# Altium footprint library MAGNETICS.PcbLib: 20 footprints (part 1 of 2)
Each footprint in its own frame and in the unit in brackets; x right, y up, seen from the top. Pads: shape width x height; smd on the part's side, far side on the other; paste and mask are expansions set on the pad; w line width, h text height; cw(c..) or ccw(c..) is an arc to the next point about the centre after c.
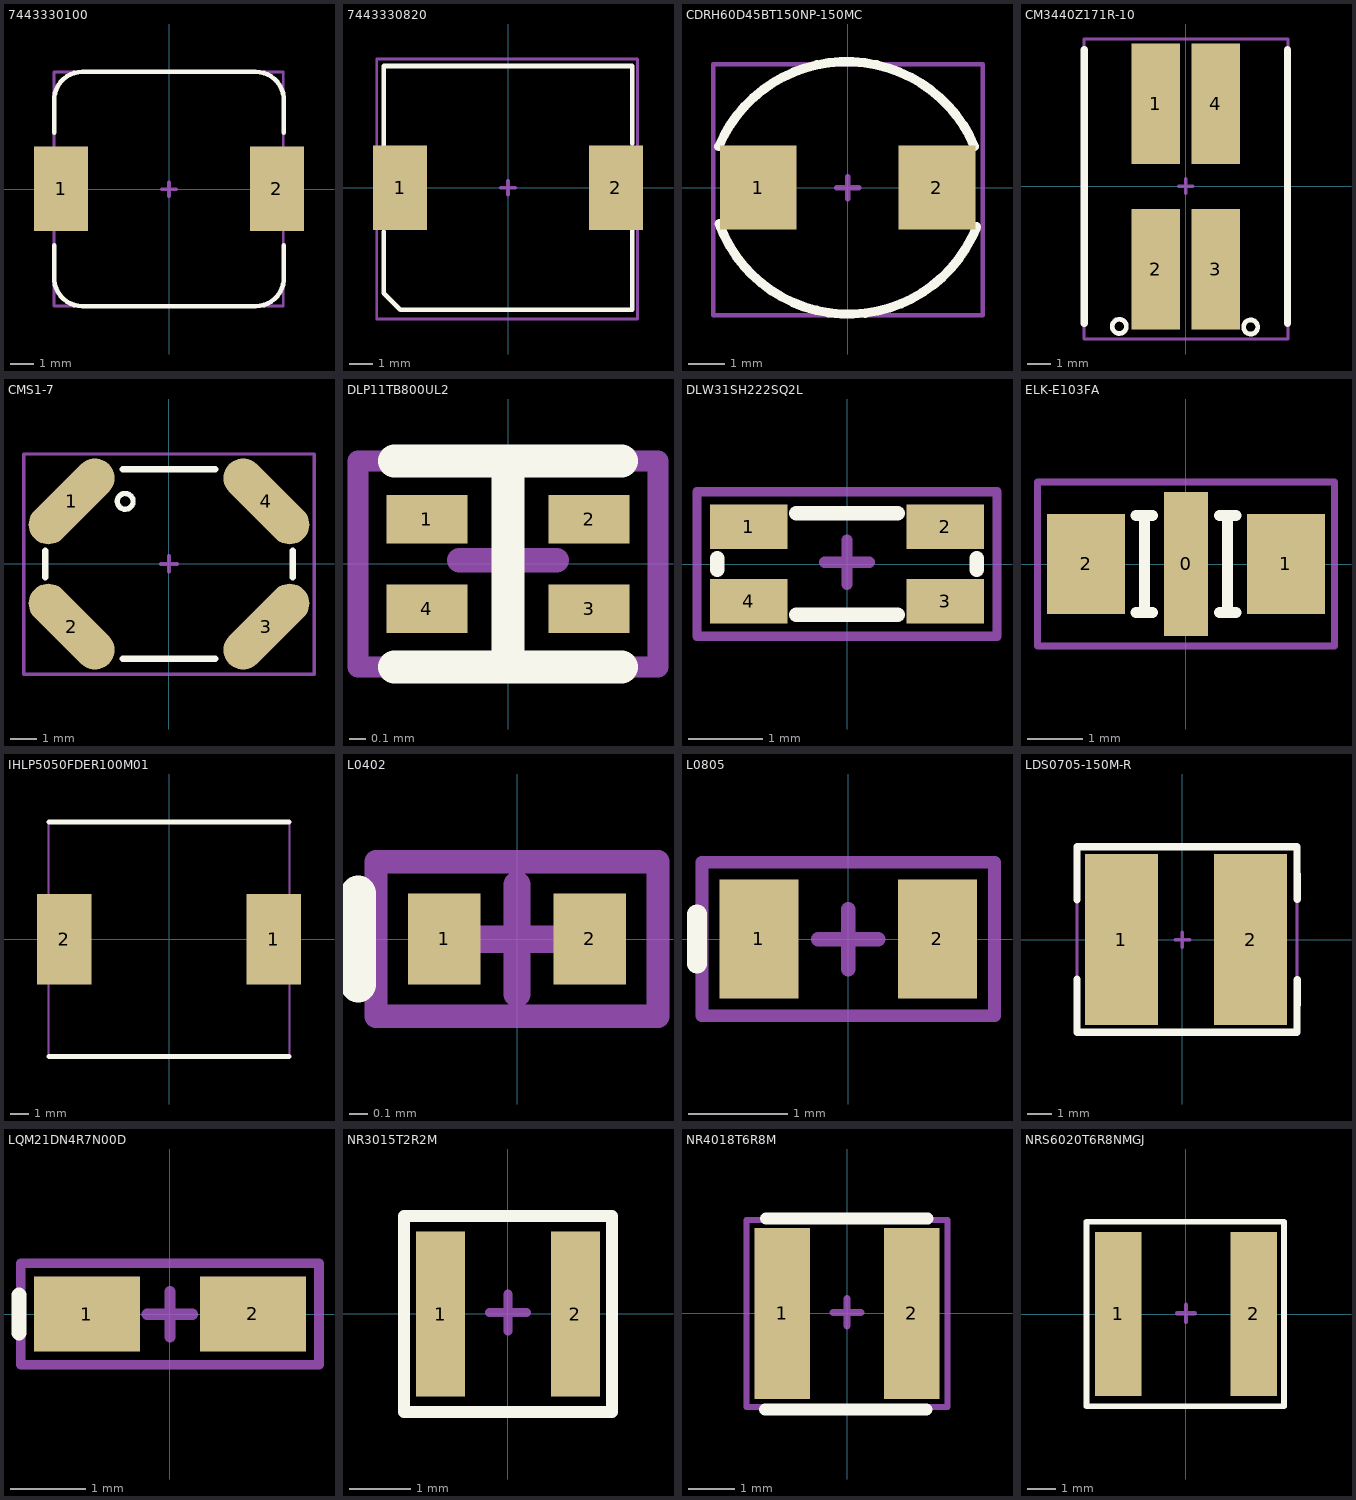
[diagram p0: the footprints below, top view; thin cyan lines are the x and y axes]

## 7443330100 [mm] "INDUCTOR POWER (10.90mm x 10.00mm x 9.30mm)"
height 9.3
pads (2):
  rect 2.3x3.6 smd: 1(-4.6,0.003) 2(4.6,0.003)
Top Overlay:
  lines w0.2: -4.896,-2.396 -4.896,-3.896 ccw(c-3.7,-3.8) -3.7,-5 3.7,-5 ccw(c3.7,-3.8) 4.896,-3.9 4.896,-2.4 ; -4.896,2.4 -4.896,3.9 cw(c-3.7,3.8) -3.7,5 3.7,5 cw(c3.7,3.8) 4.896,3.9 4.896,2.4
Top Assembly:
  lines w0.127: -4.9,-5 -4.9,5 4.875,5 4.875,-5 -4.9,-5
  text ".Designator" at -2,-0.275 h0.7
Top Component Center:
  lines w0.15: -0.3,-0.002 0.3,-0.002 ; 0,-0.302 0,0.298
3D body "7443330XXX.stp": height 9.3, standoff 0, extent -5.075,-5.05 5.175,4.95
3D body: height 3, standoff 0, extent -5.125,-1.5 -3.525,1.5
3D body: height 3, standoff 0, extent 3.575,-1.5 5.175,1.5

## 7443330820 [mm]
pads (2):
  rect 2.3x3.6 smd: 1(-4.6,0) 2(4.6,0)
Top Overlay:
  lines w0.2: -5.3,-1.875 -5.3,-4.5 -4.6,-5.2 5.3,-5.2 5.3,-1.825 ; -5.3,1.825 -5.3,5.2 5.3,5.2 5.3,1.875
Top Assembly:
  lines w0.127: -5.6,-5.6 -5.6,5.5 5.525,5.5 5.525,-5.6 -5.6,-5.6
  text ".Designator" at -1.65,-0.275 h0.7
Top Component Center:
  lines w0.15: -0.3,-0.002 0.3,-0.002 ; 0,-0.302 0,0.298
3D body "7443330XXX.stp": height 9.3, standoff 0, extent -5.125,-5 5.125,5
3D body: height 3, standoff 0, extent 4.029,-1.475 5.629,1.525
3D body: height 3, standoff 0, extent -5.629,-1.475 -4.029,1.525

## CDRH60D45BT150NP-150MC [mm]
pads (2):
  rect 2.1x2.3 smd: 1(-2.45,0) 2(2.45,0)
Top Overlay:
  lines w0.254: -3.527,1.126 cw(c-0.025,-0.35) 3.476,1.127 ; -3.515,-0.995 ccw(c0.025,0.3) 3.534,-1.077
Top Assembly:
  lines w0.127: -3.675,-3.5 3.7,-3.5 3.7,3.375 -3.675,3.375 -3.675,-3.5
  text ".Designator" at -2.2,-0.375 h0.7
Top Component Center:
  lines w0.15: -0.3,-0.002 0.3,-0.002 ; 0,-0.302 0,0.298
3D body: height 1, standoff 0, extent 2.825,-1.237 3.325,1.25
3D body: height 1, standoff 0, extent -3.325,-1.244 -2.825,1.244
3D body: height 4.8, standoff 0, extent -3.3,-3.3 3.3,3.3

## CM3440Z171R-10 [mm]
height 10.45
pads (4):
  rect 2.05x5.1 smd: 1(-1.27,3.475) 2(-1.27,-3.525) 3(1.27,-3.525) 4(1.27,3.475)
Top Overlay:
  circle w0.2: c-2.815,-5.944 r0.3
  circle w0.2: c2.748,-5.969 r0.3
  lines w0.305: -4.3,-5.825 -4.3,5.775 ; 4.3,-5.825 4.3,5.775
Top Assembly:
  lines w0.127: -4.3,-6.477 4.318,-6.477 4.318,6.223 -4.3,6.223 -4.3,-6.477
  text ".Designator" at -1.651,-0.254 h0.7
Top Component Center:
  lines w0.15: -0.3,-0.002 0.3,-0.002 ; 0,-0.302 0,0.298
3D body: height 10.45, standoff 0, extent -4.452,-6.369 4.452,5.927

## CMS1-7 [mm]
height 4.5
pads (4):
  oval 4x1.5 smd rot 45: 1(-3.7,2.375) 3(3.7,-2.385)
  oval 4x1.5 smd rot 135: 2(-3.7,-2.385) 4(3.7,2.375)
Top Overlay:
  circle w0.2: c-1.664,2.375 r0.3
  lines w0.254: -4.7,-0.505 -4.7,0.495 ; -1.75,-3.605 1.75,-3.605 ; -1.75,3.595 1.75,3.595 ; 4.7,-0.505 4.7,0.495
Top Assembly:
  lines w0.127: -5.525,-4.2 -5.525,4.175 5.525,4.175 5.525,-4.2 -5.525,-4.2
  text ".Designator" at -1.7,-0.3 h0.7
Top Component Center:
  lines w0.15: -0.3,0.002 0.3,0.002 ; 0,-0.298 0,0.302
3D body: height 2, standoff 0, extent 2.956,1.856 4.588,3.488
3D body: height 2.6, standoff 0, extent -2.65,-3.275 2.6,3.275
3D body: height 2.6, standoff 0, extent 1.6,0.775 4.1,3.275
3D body: height 2.6, standoff 0, extent -4.15,0.787 -1.662,3.275
3D body: height 2.6, standoff 0, extent -4.15,-3.275 -1.65,-0.775
3D body: height 2.6, standoff 0, extent 1.6,-3.275 4.1,-0.775
3D body: height 2.6, standoff 0, extent -3.6,-2.325 3.525,2.25
3D body: height 2.6, standoff 0, extent -4.15,-1.775 4.1,1.775
3D body: height 2, standoff 0, extent -4.6,-3.5 -2.956,-1.856
3D body: height 2, standoff 0, extent -4.6,1.85 -2.95,3.5
3D body: height 2, standoff 0, extent 2.956,-3.487 4.588,-1.856

## DLP11TB800UL2 [mm]
pads (4):
  rect 0.5x0.3 smd: 1(-0.5,0.275) 2(0.5,0.275) 3(0.5,-0.275) 4(-0.5,-0.275)
Top Overlay:
  lines w0.203: -0.7,-0.635 0.7,-0.635 ; -0.7,0.635 0.7,0.635 ; 0,-0.635 0,0.635
Top Assembly:
  lines w0.127: -0.925,-0.635 0.925,-0.635 0.925,0.635 -0.925,0.635 -0.925,-0.635
  text ".Designator" at -0.625,-0.15 h0.4
Top Component Center:
  lines w0.15: -0.3,0.023 0.3,0.023 ; 0,-0.277 0,0.323
3D body: height 0.35, standoff 0, extent 0.4,0.125 0.65,0.425
3D body: height 0.35, standoff 0, extent 0.4,-0.425 0.65,-0.125
3D body: height 0.35, standoff 0, extent -0.65,-0.425 -0.4,-0.125
3D body: height 0.35, standoff 0, extent -0.65,0.125 -0.4,0.425
3D body: height 0.35, standoff 0, extent -0.628,-0.499 0.628,0.499

## DLW31SH222SQ2L [mm]
height 2
pads (4):
  rect 1.05x0.6 smd: 1(-1.325,0.5) 2(1.325,0.5) 3(1.325,-0.5) 4(-1.325,-0.5)
Top Overlay:
  lines w0.2: -1.753,-0.076 -1.753,0.076 ; -0.686,-0.686 0.686,-0.686 ; -0.686,0.686 0.686,0.686 ; 1.753,-0.076 1.753,0.076
Top Assembly:
  lines w0.127: -2.025,-0.975 -2.025,0.975 2.025,0.975 2.025,-0.975 -2.025,-0.975
  text ".Designator" at -1,-0.1 h0.4
Top Component Center:
  lines w0.15: -0.3,0.023 0.3,0.023 ; 0,-0.277 0,0.323
3D body: height 0.25, standoff 0, extent -1.623,-0.825 -1.023,-0.225
3D body: height 1.9, standoff 0, extent -1.601,-0.8 1.602,0.8
3D body: height 0.25, standoff 0, extent -1.623,0.225 -1.023,0.825
3D body: height 0.25, standoff 0, extent 1.027,0.225 1.627,0.825
3D body: height 0.25, standoff 0, extent 1.027,-0.825 1.627,-0.225

## ELK-E103FA [mm]
height 2.2
pads (3):
  rect 0.8x2.6 smd: 0(0,0)
  rect 1.4x1.8 smd mask+0.102: 1(1.8,0) 2(-1.8,0)
Top Overlay:
  lines w0.2: -0.9,-0.875 -0.6,-0.875 ; -0.9,0.875 -0.6,0.875 ; -0.75,-0.875 -0.75,0.875 ; 0.6,-0.875 0.9,-0.875 ; 0.6,0.875 0.9,0.875 ; 0.75,-0.875 0.75,0.875
Top Assembly:
  lines w0.127: -2.675,-1.475 2.675,-1.475 2.675,1.475 -2.675,1.475 -2.675,-1.475
  text ".Designator" at -1,-0.125 h0.4
Top Component Center:
  lines w0.15: -0.3,-0.002 0.3,-0.002 ; 0,-0.302 0,0.298
3D body: height 0.7, standoff 0, extent -0.275,-0.4 0.275,0.4
3D body: height 0.7, standoff 0, extent -1.625,-0.4 -1.075,0.4
3D body: height 2.2, standoff 0.1, extent -1.6,-0.9 1.6,0.9
3D body: height 0.7, standoff 0, extent 1.075,-0.4 1.625,0.4

## IHLP5050FDER100M01 [mm] "0.520\" L x 0.508\" W (13.20mm x 12.90mm)"
height 6.5
pads (2):
  rect 3x5 smd paste+0 mask+0.102: 1(5.75,0) 2(-5.75,0)
Top Overlay:
  lines w0.254: -6.6,-6.45 6.6,-6.45 ; -6.6,6.45 6.6,6.45
Top Assembly:
  lines w0.127: -6.625,-6.475 6.625,-6.475 6.625,6.5 -6.625,6.5 -6.625,-6.475
  text ".Designator" at -2.3,-0.25 h0.7
3D body: height 6.5, standoff 0, extent -6.731,-6.477 6.731,6.477

## L0402 [mm]
pads (2):
  rect 0.4x0.5 smd: 1(-0.4,0) 2(0.4,0)
Top Overlay:
  lines w0.2: -0.875,-0.25 -0.875,0.25
Top Assembly:
  lines w0.127: -0.775,-0.425 0.775,-0.425 0.775,0.425 -0.775,0.425 -0.775,-0.425
  text ".Designator" at -0.5,-0.175 h0.3
Top Component Center:
  lines w0.15: -0.3,-0.002 0.3,-0.002 ; 0,-0.302 0,0.298
3D body: height 0.55, standoff 0, extent 0.275,-0.287 0.525,0.238
3D body: height 0.55, standoff 0, extent -0.525,-0.287 -0.275,0.238
3D body: height 0.55, standoff 0, extent -0.501,-0.275 0.501,0.225

## L0805 [mm]
pads (2):
  rect 0.8x1.2 smd: 1(-0.9,0) 2(0.9,0)
Top Overlay:
  lines w0.2: -1.525,-0.25 -1.525,0.25
Top Assembly:
  lines w0.127: -1.475,-0.775 -1.475,0.775 1.475,0.775 1.475,-0.775 -1.475,-0.775
  text ".Designator" at -0.85,-0.275 h0.5
Top Component Center:
  lines w0.15: -0.3,-0.002 0.3,-0.002 ; 0,-0.302 0,0.298
3D body: height 0.55, standoff 0, extent 0.525,-0.644 1.025,0.644
3D body: height 0.55, standoff 0, extent -1.025,-0.644 -0.525,0.644
3D body: height 0.55, standoff 0, extent -1.001,-0.625 1,0.625

## LDS0705-150M-R [mm]
height 3
pads (2):
  rect 3x7 smd: 1(-2.5,0.003) 2(2.794,0)
Top Overlay:
  lines w0.3: -4.318,-1.622 -4.318,-3.797 4.698,-3.797 4.703,-1.644 ; -4.318,1.638 -4.318,3.803 4.696,3.803 4.701,1.65
Top Assembly:
  lines w0.127: -4.325,-3.8 4.7,-3.8 4.7,3.85 -4.325,3.85 -4.325,-3.8
  text ".Designator" at -1.65,-0.35 h0.7
Top Component Center:
  lines w0.15: -0.3,-0.002 0.3,-0.002 ; 0,-0.302 0,0.298
3D body: height 1, standoff 0, extent 3.425,-1.244 3.925,1.244
3D body: height 1, standoff 0, extent -3.925,-1.244 -3.425,1.244
3D body: height 5, standoff 0, extent -3.9,-3.897 3.9,3.897

## LQM21DN4R7N00D [mm]
pads (2):
  rect 1.4x1 smd: 1(-1.1,0) 2(1.1,0)
Top Overlay:
  lines w0.2: -2,-0.25 -2,0.25
Top Assembly:
  lines w0.127: -1.975,-0.675 -1.975,0.675 1.975,0.675 1.975,-0.675 -1.975,-0.675
  text ".Designator" at -0.85,-0.275 h0.5
Top Component Center:
  lines w0.15: -0.3,-0.002 0.3,-0.002 ; 0,-0.302 0,0.298
3D body: height 1.05, standoff 0, extent 0.525,-0.45 1.025,0.45
3D body: height 1.05, standoff 0, extent -1.001,-0.425 1.001,0.425
3D body: height 1.05, standoff 0, extent -1.025,-0.45 -0.525,0.45

## NR3015T2R2M [mm]
height 1.5
pads (2):
  rect 0.8x2.7 smd: 1(-1.1,0) 2(1.1,0)
Top Overlay:
  lines w0.2: -1.7,-1.6 1.7,-1.6 1.7,1.6 -1.7,1.6 -1.7,-1.6
Top Assembly:
  lines w0.127: -1.7,-1.6 -1.7,1.6 1.7,1.6 1.7,-1.6 -1.7,-1.6
  text ".Designator" at -1.2,-0.15 h0.5
Top Component Center:
  lines w0.15: -0.3,0.023 0.3,0.023 ; 0,-0.277 0,0.323
3D body: height 0.5, standoff 0, extent -1.525,-1.525 -0.625,1.525
3D body: height 0.5, standoff 0, extent 0.625,-1.525 1.525,1.525
3D body: height 1.5, standoff 0, extent -1.5,-1.5 1.5,1.5

## NR4018T6R8M [mm]
height 2
pads (2):
  rect 1.2x3.7 smd paste+0 mask+0.102: 1(-1.4,0) 2(1.4,0)
Top Overlay:
  lines w0.254: -1.778,-2.083 1.722,-2.083 ; -1.753,2.057 1.747,2.057
Top Assembly:
  lines w0.127: -2.175,-2.025 -2.175,2.025 2.175,2.025 2.175,-2.025 -2.175,-2.025
  text ".Designator" at -1.2,-0.15 h0.5
Top Component Center:
  lines w0.15: -0.3,0.023 0.3,0.023 ; 0,-0.277 0,0.323
3D body: height 2, standoff 0, extent -2.102,-1.952 2.102,1.952

## NRS6020T6R8NMGJ [mm]
height 2
pads (2):
  rect 1.6x5.7 smd: 1(-2.35,0) 2(2.35,0)
Top Overlay:
  lines w0.2: -3.45,-3.2 3.4,-3.2 3.4,3.2 -3.45,3.2 -3.45,-3.2
Top Assembly:
  lines w0.127: -3.45,-3.2 -3.45,3.2 3.4,3.2 3.4,-3.2 -3.45,-3.2
  text ".Designator" at -1.2,-0.15 h0.5
Top Component Center:
  lines w0.15: -0.3,0.023 0.3,0.023 ; 0,-0.277 0,0.323
3D body: height 2, standoff 1.69, extent -3.138,-3 3.138,3
3D body: height 1.7, standoff 0.64, extent -3.075,-2.95 3.1,2.95
3D body: height 3.1, standoff -8.4, extent -3.05,1.1 -3.05,1.1
3D body: height 0.64, standoff 0, extent 2.456,-2.838 3.144,2.838
3D body: height 0.64, standoff 0, extent -3.144,-2.837 -2.456,2.838
3D body: height 0.65, standoff 0, extent -3.087,-2.937 3.087,2.937